# EAGLE library part PINHD-1X6 (library arduino_UNO_edit)
PIN HEADER
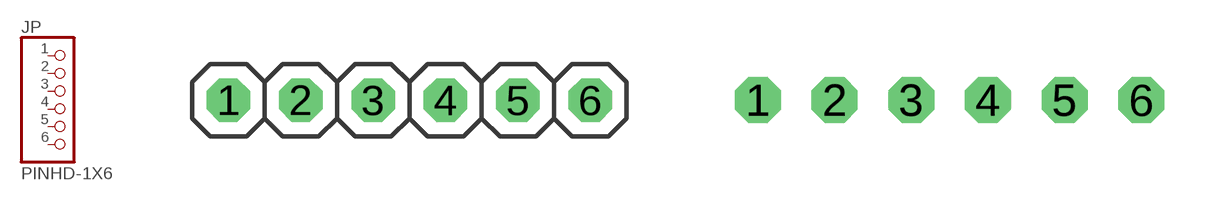
[diagram p29: symbol with the pads of 1X06; footprints 1X06, 1X06-CLEAN]

Designator prefix JP

## PINHD-1X6  [1X06]
1  1  pas
2  2  pas
3  3  pas
4  4  pas
5  5  pas
6  6  pas

## PINHD-1X6CLEAN  [1X06-CLEAN]
Pads as for 1X06

## PINHD-1X6CB  [1X06-CLEANBIG]
Pads as for 1X06

## PINHD-1X6B  [1X06-BIG]
Pads as for 1X06

## PINHD-1X6LOCK  [1X06-BIGLOCK]
Pads as for 1X06

## PINHD-1X6-3.5MM  [1X06-3.5MM]
Pads as for 1X06

## Footprint 1X06 (pad centres in mm)
PIN HEADER
drill 1.016 octagon: 1 -6.35,0; 2 -3.81,0; 3 -1.27,0; 4 1.27,0; 5 3.81,0; 6 6.35,0

## Footprint 1X06-CLEAN (pad centres in mm)
drill 1.016 octagon: 1 -6.35,0; 2 -3.81,0; 3 -1.27,0; 4 1.27,0; 5 3.81,0; 6 6.35,0

## Footprint 1X06-CLEANBIG (pad centres in mm)
drill 1.016 pad 1.778 octagon: 1 -6.35,0; 2 -3.81,0; 3 -1.27,0; 4 1.27,0; 5 3.81,0; 6 6.35,0

## Footprint 1X06-BIG (pad centres in mm)
drill 1.016 pad 1.778 octagon: 1 -6.35,0; 2 -3.81,0; 3 -1.27,0; 4 1.27,0; 5 3.81,0; 6 6.35,0

## Footprint 1X06-BIGLOCK (pad centres in mm)
drill 1.016 pad 1.778 octagon: 1 -6.35,0.127; 2 -3.81,-0.127; 3 -1.27,0.127; 4 1.27,-0.127; 5 3.81,0.127; 6 6.35,-0.127

## Footprint 1X06-3.5MM (pad centres in mm)
drill 1 pad 2.184: 1 -8.75,0; 2 -5.25,0; 3 -1.75,0; 4 1.75,0; 5 5.25,0; 6 8.75,0